# EAGLE library part ICSP_TARGET_6PIN_02X03_P2.54MM (library Connector_ICSP)
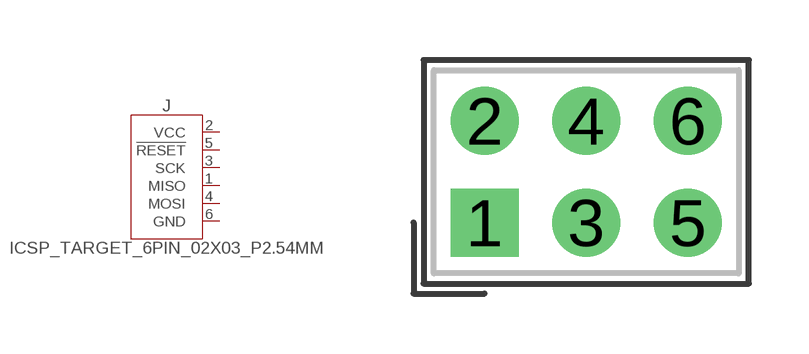
[diagram p1: symbol with the pads of 02X03_P2.54MM; footprint 02X03_P2.54MM]

Designator prefix J

## ICSP_TARGET_6PIN_02X03_P2.54MM  [02X03_P2.54MM]
1  MISO  in
2  VCC  pas
3  SCK  out
4  MOSI  out
5  !RESET  out
6  GND  pas

## Footprint 02X03_P2.54MM (pad centres in mm)
drill 1 pad 1.7 square: 1 -2.54,-1.27
drill 1 pad 1.7: 2 -2.54,1.27; 3 0,-1.27; 4 0,1.27; 5 2.54,-1.27; 6 2.54,1.27